# Altium schematic symbol library SN74AHC1G08DBVR.Schlib: 1 symbol
Pins are listed as number, name and electrical type; pins without a type are passive.

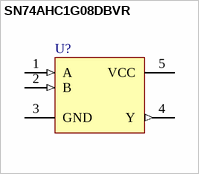
[diagram p0: symbol SN74AHC1G08DBVR]

## SN74AHC1G08DBVR
designator U?
Single 2-Input Positive AND Gate
pins: 1 A (in), 2 B (in), 3 GND (power), 4 Y (out), 5 VCC (power)